# Altium schematic symbol library MiniUSB-A.SchLib: 1 symbol
Pins are listed as number, name and electrical type; pins without a type are passive.

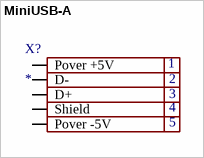
[diagram p0: symbol MiniUSB-A]

## MiniUSB-A
designator X?
footprint MiniUSB-A
pins: 1 Pover +5V, 2 D-, 3 D+, 4 Shield, 5 Pover -5V